# Altium footprint library ring_23_14_10.PcbLib: 1 footprints
Each footprint in its own frame and in the unit in brackets; x right, y up, seen from the top. Pads: shape width x height; smd on the part's side, far side on the other; paste and mask are expansions set on the pad; w line width, h text height; cw(c..) or ccw(c..) is an arc to the next point about the centre after c.
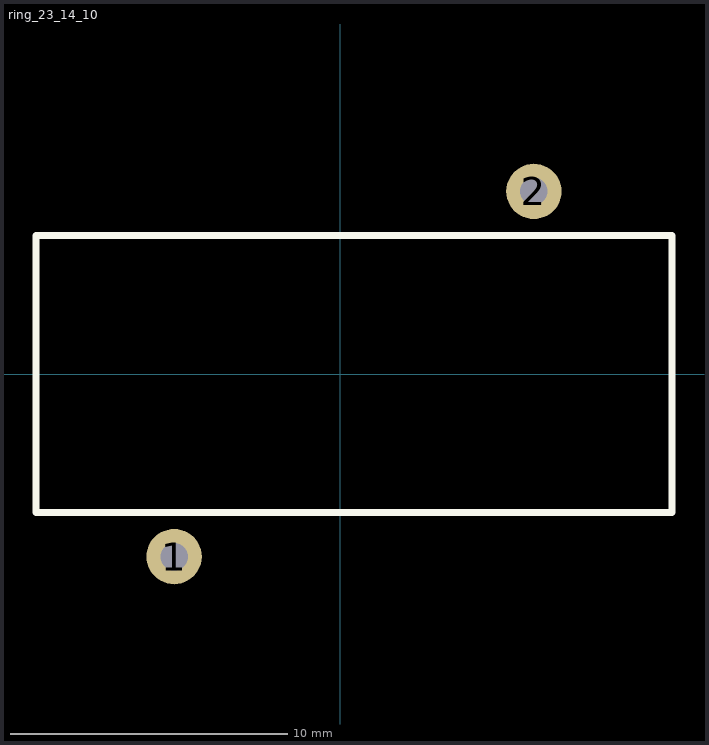
[diagram p0: the footprint, top view; thin cyan lines are the x and y axes]

## ring_23_14_10 [mm]
pads (2):
  round 2 hole 1: 1(-6,-6.6) 2(7,6.6)
Top Overlay:
  lines w0.254: -11,-5 12,-5 12,5 -11,5 -11,-5
3D body "колечко (желтое) 23х14х10.stp": height 23.5, standoff 0.5, extent -11,-5 12,5